# EAGLE library part XR-16C552J (library exar)
DUAL UART with FIFO and parallel printer port
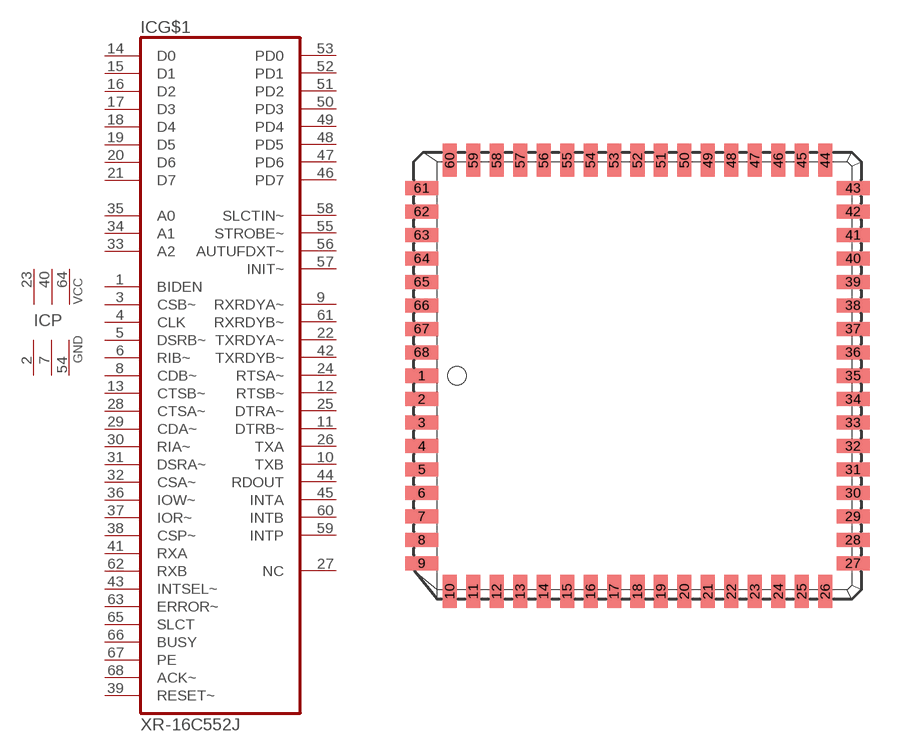
[diagram p105: symbol with the pads of PLCC68; footprint PLCC68]

Designator prefix IC; gates G$1=16C552J P=3VCC3GND

## XR-16C552J (MPN: TL16C552AFNRG4; OC_FARNELL: 1703245; OC_NEWARK: 99K4382)  [PLCC68]
1  G$1:BIDEN  in
2  P:GND  pwr
3  G$1:CSB~  in
4  G$1:CLK  in
5  G$1:DSRB~  in
6  G$1:RIB~  in
7  P:GND  pwr
8  G$1:CDB~  in
9  G$1:RXRDYA~  out
10  G$1:TXB  out
11  G$1:DTRB~  out
12  G$1:RTSB~  out
13  G$1:CTSB~  in
14  G$1:D0
15  G$1:D1
16  G$1:D2
17  G$1:D3
18  G$1:D4
19  G$1:D5
20  G$1:D6
21  G$1:D7
22  G$1:TXRDYA~  out
23  P:VCC  pwr
24  G$1:RTSA~  out
25  G$1:DTRA~  out
26  G$1:TXA  out
27  G$1:NC  nc
28  G$1:CTSA~  in
29  G$1:CDA~  in
30  G$1:RIA~  in
31  G$1:DSRA~  in
32  G$1:CSA~  in
33  G$1:A2  in
34  G$1:A1  in
35  G$1:A0  in
36  G$1:IOW~  in
37  G$1:IOR~  in
38  G$1:CSP~  in
39  G$1:RESET~  in
40  P:VCC  pwr
41  G$1:RXA  in
42  G$1:TXRDYB~  out
43  G$1:INTSEL~  in
44  G$1:RDOUT  out
45  G$1:INTA  out
46  G$1:PD7
47  G$1:PD6
48  G$1:PD5
49  G$1:PD4
50  G$1:PD3
51  G$1:PD2
52  G$1:PD1
53  G$1:PD0
54  P:GND  pwr
55  G$1:STROBE~
56  G$1:AUTUFDXT~
57  G$1:INIT~
58  G$1:SLCTIN~
59  G$1:INTP  out
60  G$1:INTB  out
61  G$1:RXRDYB~  out
62  G$1:RXB  in
63  G$1:ERROR~  in
64  P:VCC  pwr
65  G$1:SLCT  in
66  G$1:BUSY  in
67  G$1:PE  in
68  G$1:ACK~  in

## Footprint PLCC68 (pad centres in mm)
Plastic Leaded Chip Carrier
smd 1.8 x 0.76: 1 -11.67,0; 2 -11.67,-1.27; 3 -11.67,-2.54; 4 -11.67,-3.81; 5 -11.67,-5.08; 6 -11.67,-6.35; 7 -11.67,-7.62; 8 -11.67,-8.89; 9 -11.67,-10.16; 27 11.67,-10.16; 28 11.67,-8.89; 29 11.67,-7.62; 30 11.67,-6.35; 31 11.67,-5.08; 32 11.67,-3.81; 33 11.67,-2.54; 34 11.67,-1.27; 35 11.67,0; 36 11.67,1.27; 37 11.67,2.54; 38 11.67,3.81; 39 11.67,5.08; 40 11.67,6.35; 41 11.67,7.62; 42 11.67,8.89; 43 11.67,10.16; 61 -11.67,10.16; 62 -11.67,8.89; 63 -11.67,7.62; 64 -11.67,6.35; 65 -11.67,5.08; 66 -11.67,3.81; 67 -11.67,2.54; 68 -11.67,1.27
smd 0.76 x 1.8: 10 -10.16,-11.67; 11 -8.89,-11.67; 12 -7.62,-11.67; 13 -6.35,-11.67; 14 -5.08,-11.67; 15 -3.81,-11.67; 16 -2.54,-11.67; 17 -1.27,-11.67; 18 0,-11.67; 19 1.27,-11.67; 20 2.54,-11.67; 21 3.81,-11.67; 22 5.08,-11.67; 23 6.35,-11.67; 24 7.62,-11.67; 25 8.89,-11.67; 26 10.16,-11.67; 44 10.16,11.67; 45 8.89,11.67; 46 7.62,11.67; 47 6.35,11.67; 48 5.08,11.67; 49 3.81,11.67; 50 2.54,11.67; 51 1.27,11.67; 52 0,11.67; 53 -1.27,11.67; 54 -2.54,11.67; 55 -3.81,11.67; 56 -5.08,11.67; 57 -6.35,11.67; 58 -7.62,11.67; 59 -8.89,11.67; 60 -10.16,11.67